# EAGLE library part IS62WV5128BLL-55QLI (library ISSI_By_element14_Batch_1)
STATIC RAM
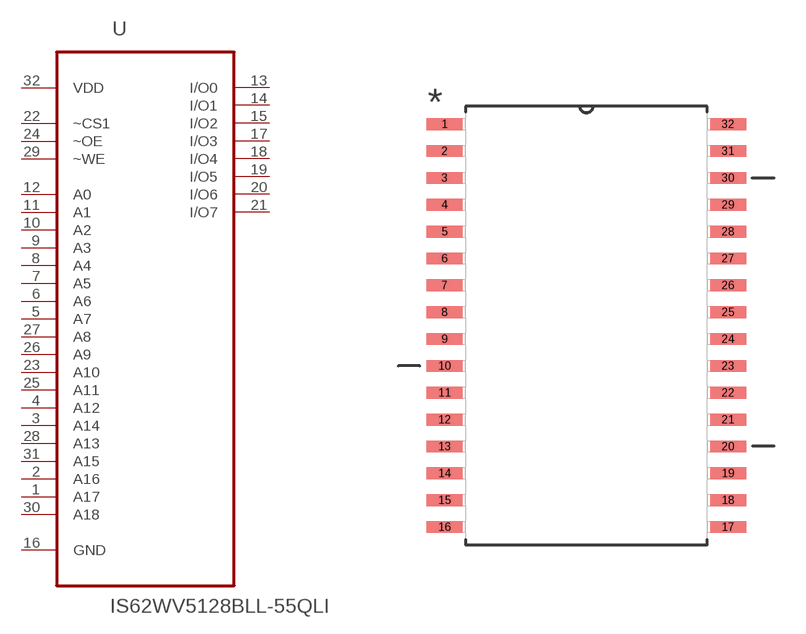
[diagram p6: symbol with the pads of SOIC127P1412X300-32N; footprint SOIC127P1412X300-32N]

Designator prefix U

## IS62WV5128BLL-55QLI (MPN: IS62WV5128BLL-55QLI; OC_FARNELL: 1869972; OC_NEWARK: 32T7412; PACKAGE: SOIC-32; SUPPLIER: INTEGRATED SILICON SOLUTION (ISSI))  [SOIC127P1412X300-32N]
1  A17  in
2  A16  in
3  A14  in
4  A12  in
5  A7  in
6  A6  in
7  A5  in
8  A4  in
9  A3  in
10  A2  in
11  A1  in
12  A0  in
13  I/O0
14  I/O1
15  I/O2
16  GND  pas
17  I/O3
18  I/O4
19  I/O5
20  I/O6
21  I/O7
22  ~CS1  in
23  A10  in
24  ~OE  in
25  A11  in
26  A9  in
27  A8  in
28  A13  in
29  ~WE  in
30  A18  in
31  A15  in
32  VDD  pwr

## Footprint SOIC127P1412X300-32N (pad centres in mm)
smd 1.702 x 0.559: 1 -6.706,9.525; 2 -6.706,8.255; 3 -6.706,6.985; 4 -6.706,5.715; 5 -6.706,4.445; 6 -6.706,3.175; 7 -6.706,1.905; 8 -6.706,0.635; 9 -6.706,-0.635; 10 -6.706,-1.905; 11 -6.706,-3.175; 12 -6.706,-4.445; 13 -6.706,-5.715; 14 -6.706,-6.985; 15 -6.706,-8.255; 16 -6.706,-9.525; 17 6.706,-9.525; 18 6.706,-8.255; 19 6.706,-6.985; 20 6.706,-5.715; 21 6.706,-4.445; 22 6.706,-3.175; 23 6.706,-1.905; 24 6.706,-0.635; 25 6.706,0.635; 26 6.706,1.905; 27 6.706,3.175; 28 6.706,4.445; 29 6.706,5.715; 30 6.706,6.985; 31 6.706,8.255; 32 6.706,9.525